# Altium footprint library pedals-ota.PCBLIB: 5 footprints
Each footprint in its own frame and in the unit in brackets; x right, y up, seen from the top. Pads: shape width x height; smd on the part's side, far side on the other; paste and mask are expansions set on the pad; w line width, h text height; cw(c..) or ccw(c..) is an arc to the next point about the centre after c.
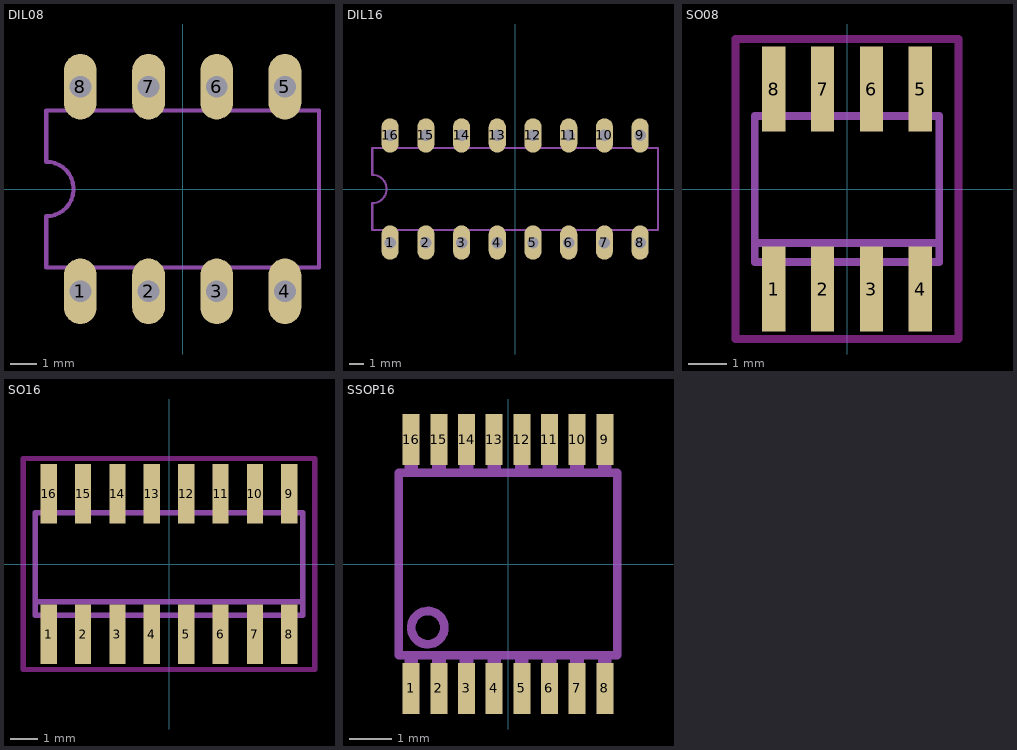
[diagram p0: the footprints below, top view; thin cyan lines are the x and y axes]

## DIL08 [mil]
pads (8):
  oval 48x96 hole 32: 1(-150,-150) 2(-50,-150) 3(50,-150) 4(150,-150) 5(150,150) 6(50,150) 7(-50,150) 8(-150,150)
Mechanical 2:
  lines w6: -200,-115 200,-115 200,115 -200,115 -200,40 cw(c-200,0) -200,-40 -200,-115

## DIL16 [mil]
pads (16):
  oval 48x96 hole 32: 1(-350,-150) 2(-250,-150) 3(-150,-150) 4(-50,-150) 5(50,-150) 6(150,-150) 7(250,-150) 8(350,-150) 9(350,150) 10(250,150) 11(150,150) 12(50,150) 13(-50,150) 14(-150,150) 15(-250,150) 16(-350,150)
Mechanical 2:
  lines w6: -400,-115 400,-115 400,115 -400,115 -400,40 cw(c-400,0) -400,-40 -400,-115

## SO08 [mil]
pads (8):
  rect 23.62x86.61 smd: 1(-75,-102.36) 2(-25,-102.36) 3(25,-102.36) 4(75,-102.36) 5(75,102.36) 6(25,102.36) 7(-25,102.36) 8(-75,102.36)
Keep-Out Layer:
  lines w7.87: -114.17,-153.54 114.17,-153.54 114.17,153.54 -114.17,153.54 -114.17,-153.54
Mechanical 18:
  rectangle: -84.65,-122.05 -65.35,-78.74
  rectangle: -34.65,-122.05 -15.35,-78.74
  rectangle: 15.35,-122.05 34.65,-78.74
  rectangle: 65.35,-122.05 84.65,-78.74
  rectangle: 65.35,78.74 84.65,122.05
  rectangle: 15.35,78.74 34.65,122.05
  rectangle: -34.65,78.74 -15.35,122.05
  rectangle: -84.65,78.74 -65.35,122.05
  lines w8: -94.49,-55.12 -94.49,-74.8 94.49,-74.8 94.49,-55.12 ; -94.49,-55.12 -94.49,74.8 94.49,74.8 94.49,-55.12 ; -94.49,-55.12 94.49,-55.12

## SO16 [mil]
pads (16):
  rect 23.62x86.61 smd: 1(-175,-102.36) 2(-125,-102.36) 3(-75,-102.36) 4(-25,-102.36) 5(25,-102.36) 6(75,-102.36) 7(125,-102.36) 8(175,-102.36) 9(175,102.36) 10(125,102.36) 11(75,102.36) 12(25,102.36) 13(-25,102.36) 14(-75,102.36) 15(-125,102.36) 16(-175,102.36)
Keep-Out Layer:
  lines w7.87: -212.4,-153.54 212.4,-153.54 212.4,153.54 -212.4,153.54 -212.4,-153.54
Mechanical 18:
  rectangle: -184.65,-122.05 -165.35,-78.74
  rectangle: -134.65,-122.05 -115.35,-78.74
  rectangle: -84.65,-122.05 -65.35,-78.74
  rectangle: -34.65,-122.05 -15.35,-78.74
  rectangle: 65.35,78.74 84.65,122.05
  rectangle: 15.35,78.74 34.65,122.05
  rectangle: -34.65,78.74 -15.35,122.05
  rectangle: -84.65,78.74 -65.35,122.05
  rectangle: 15.35,-122.05 34.65,-78.74
  rectangle: 65.35,-122.05 84.65,-78.74
  rectangle: 115.35,-122.05 134.65,-78.74
  rectangle: 165.35,-122.05 184.65,-78.74
  rectangle: 165.35,78.74 184.65,122.05
  rectangle: 115.35,78.74 134.65,122.05
  rectangle: -134.65,78.74 -115.35,122.05
  rectangle: -184.65,78.74 -165.35,122.05
  lines w8: -194.49,-55.12 -194.49,-74.8 194.49,-74.8 194.49,-55.12 ; -194.49,-55.12 -194.49,74.8 194.49,74.8 194.49,-55.12 ; -194.49,-55.12 194.49,-55.12

## SSOP16 [mil]
pads (16):
  rect 15.75x47.24 smd: 1(-89.57,-115.16) 2(-63.98,-115.16) 3(-38.39,-115.16) 4(-12.8,-115.16) 5(12.8,-115.16) 6(38.39,-115.16) 7(63.98,-115.16) 8(89.57,-115.16) 9(89.57,115.16) 10(63.98,115.16) 11(38.39,115.16) 12(12.8,115.16) 13(-12.8,115.16) 14(-38.39,115.16) 15(-63.98,115.16) 16(-89.57,115.16)
Mechanical 2:
  circle w8: c-74.21,-58.86 r15.35
  lines w8: -101.1,-84.45 101.1,-84.45 101.1,84.45 -101.1,84.45 -101.1,-84.45
Mechanical 18:
  rectangle: -95.96,-130.51 -83.17,-88.29
  rectangle: -70.37,-130.51 -57.58,-88.29
  rectangle: -44.78,-130.51 -31.99,-88.29
  rectangle: -19.19,-130.51 -6.4,-88.29
  rectangle: 6.4,-130.51 19.19,-88.29
  rectangle: 31.99,-130.51 44.78,-88.29
  rectangle: 57.58,-130.51 70.37,-88.29
  rectangle: 83.17,-130.51 95.96,-88.29
  rectangle: 83.17,88.29 95.96,130.51
  rectangle: 57.58,88.29 70.37,130.51
  rectangle: 31.99,88.29 44.78,130.51
  rectangle: 6.4,88.29 19.19,130.51
  rectangle: -19.19,88.29 -6.4,130.51
  rectangle: -44.78,88.29 -31.99,130.51
  rectangle: -70.37,88.29 -57.58,130.51
  rectangle: -95.96,88.29 -83.17,130.51